# Altium footprint library PCB_2021-06-06.PcbLib: 12 footprints
Each footprint in its own frame and in the unit in brackets; x right, y up, seen from the top. Pads: shape width x height; smd on the part's side, far side on the other; paste and mask are expansions set on the pad; w line width, h text height; cw(c..) or ccw(c..) is an arc to the next point about the centre after c.
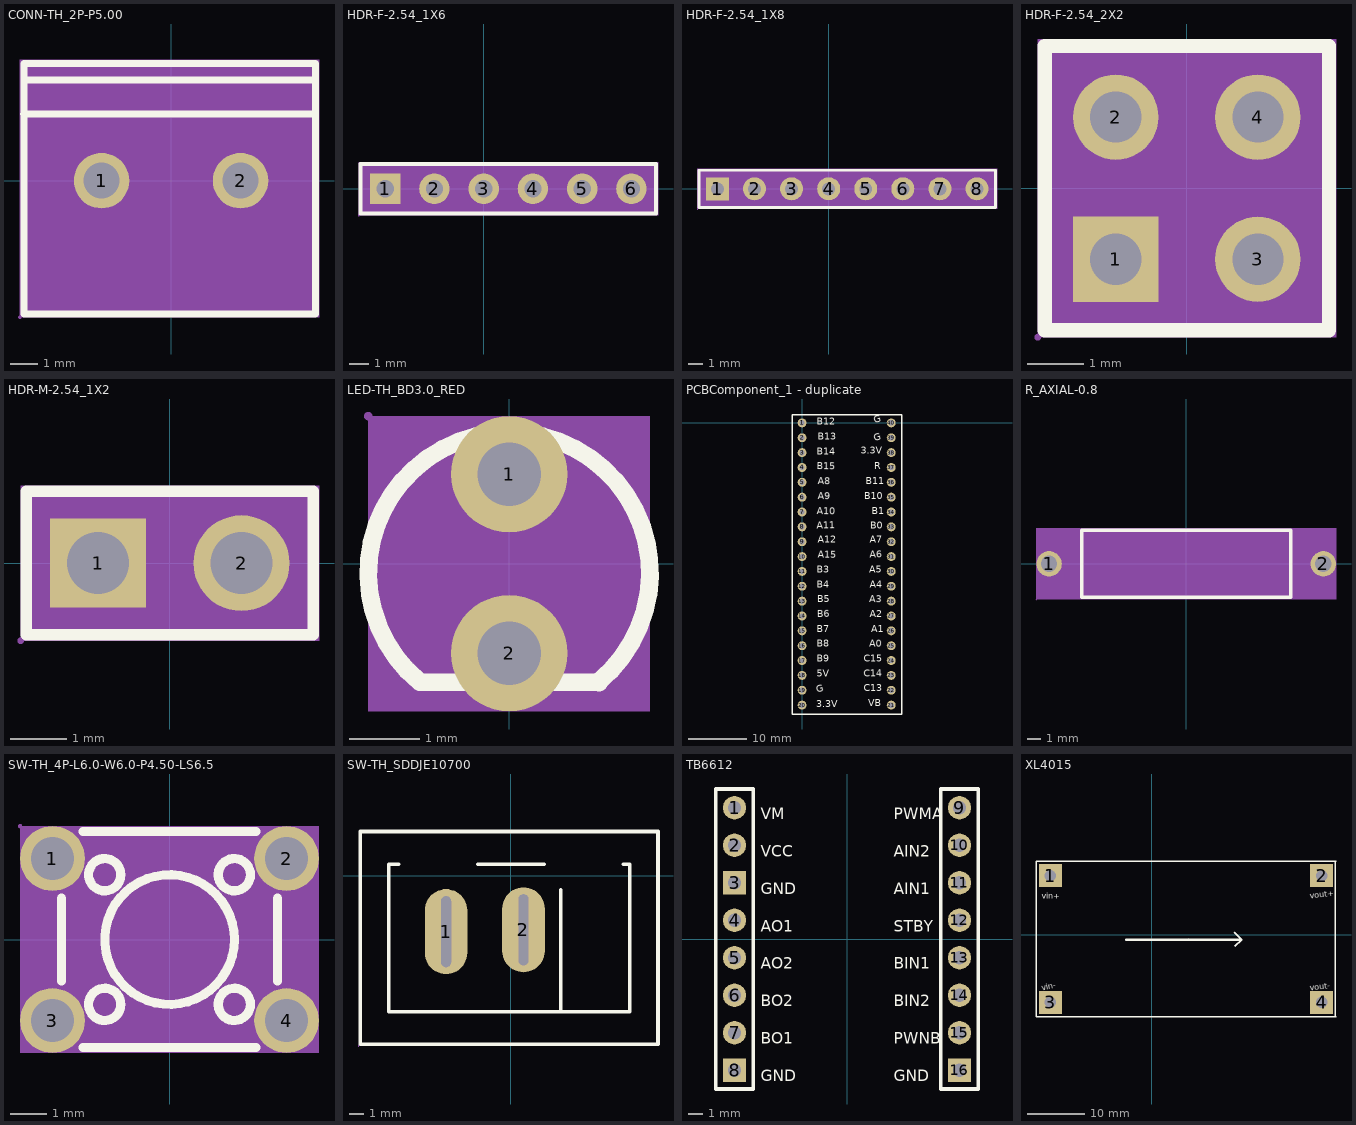
[diagram p0: the footprints below, top view; thin cyan lines are the x and y axes]

## CONN-TH_2P-P5.00 [mm]
pads (2):
  round 2 hole 1.3: 1(-2.504,0) 2(2.504,0)
Top Overlay:
  lines w0.254: -5.325,2.401 5.175,2.401 ; -5.295,3.631 5.205,3.631 ; -5.295,4.201 -5.295,-4.799 5.205,-4.799 ; -5.295,4.231 5.205,4.231 5.205,-4.769
Mechanical 4:
  region: -5.452,4.358 5.332,4.358 5.332,-4.926 -5.452,-4.926
Mechanical 5:
  circle w0.55: c-2.504,0 r0.275
  circle w0.55: c2.504,0 r0.275
Mechanical 6:
  circle w0.06: c-5.452,-4.926 r0.03

## HDR-F-2.54_1X6 [mil]
pads (6):
  rect 62x62 hole 35: 1(-200,0)
  round 62 hole 35: 2(-100,0) 3(0,0) 4(100,0) 5(200,0) 6(300,0)
Top Overlay:
  lines w7.99: -175,50 350,50
  lines w8: -175,50 -250,50 -250,-50 350,-50 350,50
Mechanical 4:
  region: -254,54 354,54 354,-54 -254,-54
Mechanical 5:
  circle w13.56: c-200,0 r6.78
  circle w13.56: c-100,0 r6.78
  circle w13.56: c0,0 r6.78
  circle w13.56: c100,0 r6.78
  circle w13.56: c200,0 r6.78
  circle w13.56: c300,0 r6.78
Mechanical 6:
  circle w2.36: c-254,-54 r1.18

## HDR-F-2.54_1X8 [mil]
pads (8):
  rect 62x62 hole 35: 1(-300,0)
  round 62 hole 35: 2(-200,0) 3(-100,0) 4(0,0) 5(100,0) 6(200,0) 7(300,0) 8(400,0)
Top Overlay:
  lines w7.99: -275,50 450,50
  lines w8: -275,50 -350,50 -350,-50 450,-50 450,50
Mechanical 4:
  region: -354,54 454,54 454,-54 -354,-54
Mechanical 5:
  circle w13.56: c-300,0 r6.78
  circle w13.56: c-200,0 r6.78
  circle w13.56: c-100,0 r6.78
  circle w13.56: c0,0 r6.78
  circle w13.56: c100,0 r6.78
  circle w13.56: c200,0 r6.78
  circle w13.56: c300,0 r6.78
  circle w13.56: c400,0 r6.78
Mechanical 6:
  circle w2.36: c-354,-54 r1.18

## HDR-F-2.54_2X2 [mil]
pads (4):
  rect 60x60 hole 36: 1(-50,-50)
  round 60 hole 36: 2(-50,50) 3(50,-50) 4(50,50)
Top Overlay:
  lines w10: -100,-100 100,-100 100,100 -100,100 -100,-100
Mechanical 4:
  region: -105,105 105,105 105,-105 -105,-105
Mechanical 5:
  circle w14.06: c-50,-50 r7.03
  circle w14.06: c-50,50 r7.03
  circle w14.06: c50,-50 r7.03
  circle w14.06: c50,50 r7.03
Mechanical 6:
  circle w2.36: c-105,-105 r1.18

## HDR-M-2.54_1X2 [mm]
pads (2):
  rect 1.7x1.575 hole 1.1: 1(-1.27,0)
  round 1.7 hole 1.1: 2(1.27,0)
Top Overlay:
  lines w0.203: -2.54,-1.27 2.54,-1.27 2.54,1.27 -0.635,1.27 -2.54,1.27 -2.54,-1.27
Mechanical 4:
  region: -2.642,1.372 2.642,1.372 2.642,-1.372 -2.642,-1.372
Mechanical 5:
  circle w0.45: c-1.27,0 r0.225
  circle w0.45: c1.27,0 r0.225
Mechanical 6:
  circle w0.06: c-2.642,-1.372 r0.03

## LED-TH_BD3.0_RED [mil]
pads (2):
  round 65 hole 35.43: 1(0,50) 2(0,-50)
Top Overlay:
  lines w10: 49.82,-66.2 ccw(c-0.08,-5.29) -49.98,-66.2 50.31,-66.41
Mechanical 4:
  region: -78.82,82.5 78.66,82.5 78.66,-82.5 -78.82,-82.5
Mechanical 5:
  circle w13.78: c0,50 r6.89
  circle w13.78: c0,-50 r6.89
Mechanical 6:
  circle w2.36: c-78.82,82.5 r1.18

## PCBComponent_1 - duplicate [mil]
pads (40):
  round 60 hole 36: 1(0,0) 2(0,-100) 3(0,-200) 4(0,-300) 5(0,-400) 6(0,-500) 7(0,-600) 8(0,-700) 9(0,-800) 10(0,-900) 11(0,-1000) 12(0,-1100) 13(0,-1200) 14(0,-1300) 15(0,-1400) 16(0,-1500) 17(0,-1600) 18(0,-1700) 19(0,-1800) 20(0,-1900) 21(600,-1900) 22(600,-1800) 23(600,-1700) 24(600,-1600) 25(600,-1500) 26(600,-1400) 27(600,-1300) 28(600,-1200) 29(600,-1100) 30(600,-1000) 31(600,-900) 32(600,-800) 33(600,-700) 34(600,-600) 35(600,-500) 36(600,-400) 37(600,-300) 38(600,-200) 39(600,-100) 40(600,0)
Top Overlay:
  lines w10: -65,-1960 -65,55 670,55 670,-1960 -65,-1960
  text "B13" at 105,-130 h80
  text "B15" at 100,-330 h80
  text "B14" at 100,-230 h80
  text "A8" at 103.9,-430.2 h80
  text "A9" at 103.9,-530.2 h80
  text "A10" at 98.9,-630.2 h80
  text "A11" at 98.9,-730.2 h80
  text "A12" at 103.9,-825.2 h80
  text "A15" at 103.9,-925.2 h80
  text "B3" at 98.9,-1025.2 h80
  text "B4" at 98.9,-1125.2 h80
  text "B5" at 102.8,-1225.4 h80
  text "B6" at 102.8,-1325.4 h80
  text "B7" at 97.8,-1425.4 h80
  text "B8" at 97.8,-1525.4 h80
  text "B9" at 98.9,-1625.2 h80
  text "5V" at 98.9,-1725.2 h80
  text "G" at 105,-1835 h80
  text "G" at 492.39,-20 h80
  text "G" at 492.39,-140 h80
  text "3.3V" at 395,-225 h80
  text "R" at 485,-330 h80
  text "B11" at 429.71,-430.2 h80
  text "B10" at 419.94,-530.2 h80
  text "B1" at 469.52,-630.2 h80
  text "B0" at 459.75,-730 h80
  text "A7" at 454.27,-825.2 h80
  text "A6" at 454.27,-925.2 h80
  text "A5" at 453.9,-1025.2 h80
  text "A4" at 454.5,-1125.2 h80
  text "A3" at 453.39,-1225.4 h80
  text "A2" at 454.79,-1325.4 h80
  text "A1" at 464.19,-1425.4 h80
  text "A0" at 453.54,-1525.4 h80
  text "C15" at 413.8,-1625.2 h80
  text "C14" at 414.39,-1725.2 h80
  text "C13" at 414.17,-1825.2 h80
  text "VB" at 447.24,-1925.2 h80
  text "3.3V" at 95,-1930 h80
  text "B12" at 100,-30 h80

## R_AXIAL-0.8 [mil]
pads (2):
  round 74 hole 47.2: 1(-400,0) 2(400,0)
Top Overlay:
  lines w10: -305,-98 -305,98 305,98 305,-98 -305,-98
Mechanical 4:
  region: -437,103 437,103 437,-103 -437,-103
Mechanical 5:
  circle w19.66: c-400,0 r9.83
  circle w19.66: c400,0 r9.83
Mechanical 6:
  circle w2.36: c-437,-103 r1.18

## SW-TH_4P-L6.0-W6.0-P4.50-LS6.5 [mm]
pads (4):
  round 1.8 hole 1.2: 1(-3.25,2.25) 2(3.25,2.25) 3(-3.25,-2.25) 4(3.25,-2.25)
Top Overlay:
  circle w0.254: c1.8,-1.8 r0.447
  circle w0.254: c-1.8,-1.8 r0.447
  circle w0.254: c-1.8,1.8 r0.447
  circle w0.254: c1.8,1.8 r0.447
  circle w0.254: c0,0 r1.8
  lines w0.254: -3,-1.147 -3,1.147 ; -2.404,-3 2.404,-3 ; -2.404,3 2.404,3 ; 3,-1.147 3,1.147
Mechanical 4:
  region: -4.15,3.15 4.15,3.15 4.15,-3.15 -4.15,-3.15
Mechanical 5:
  circle w0.5: c3.25,-2.25 r0.25
  circle w0.5: c-3.25,-2.25 r0.25
  circle w0.5: c3.25,2.25 r0.25
  circle w0.5: c-3.25,2.25 r0.25
Mechanical 6:
  circle w0.06: c-4.15,3.15 r0.03

## SW-TH_SDDJE10700 [mm]
pads (2):
  oval 3x6 hole 0.7 slot 5 at 90 deg: 1(-4.572,-3.937) 2(0.889,-3.81)
Top Overlay:
  lines w0.254: -7.912,0.82 -8.625,0.82 -8.625,-9.58 8.375,-9.58 8.375,0.82 7.912,0.82 ; -2.338,0.82 2.338,0.82 ; 3.505,-9.58 3.505,-0.981 ; -10.625,-11.88 -10.625,3.12 10.375,3.12 10.375,-11.88 -10.625,-11.88
Mechanical 6:
  circle w0.06: c-10.752,-12.007 r0.03

## TB6612 [mil]
pads (16):
  round 62 hole 35: 1(-300,350) 2(-300,250) 4(-300,50) 5(-300,-50) 6(-300,-150) 7(-300,-250) 9(300,350) 10(300,250) 11(300,150) 12(300,50) 13(300,-50) 14(300,-150) 15(300,-250)
  rect 62x62 hole 35: 3(-300,150) 8(-300,-350) 16(300,-350)
Top Overlay:
  lines w10: -350,-400 -350,400 -250,400 -250,-400 -350,-400 ; 250,-400 250,400 350,400 350,-400 250,-400
  text "GND" at 125,-380 h30
  text "PWNB" at 125,-280 h30
  text "BIN2" at 125,-180 h30
  text "BIN1" at 125,-80 h30
  text "STBY" at 125,20 h30
  text "AIN1" at 125,120 h30
  text "AIN2" at 125,220 h30
  text "PWMA" at 125,320 h30
  text "GND" at -230,-380 h30
  text "BO1" at -230,-280 h30
  text "BO2" at -230,-180 h30
  text "AO2" at -230,-80 h30
  text "AO1" at -230,20 h30
  text "GND" at -230,120 h30
  text "VCC" at -230,220 h30
  text "VM" at -230,320 h30

## XL4015 [mm]
pads (4):
  rect 4x4 hole 2: 1(-17.566,10.276) 2(29.434,10.276) 3(-17.566,-11.724) 4(29.434,-11.724)
Top Overlay:
  lines w0.254: 14.299,0.411 15.569,-0.859 14.426,-2.002 ; 31.831,-14.224 31.831,12.776 ; 31.934,-14.224 -20.066,-14.224 -20.066,12.776 31.934,12.776
  lines w0.4: -4.431,-0.859 15.569,-0.859
  text "vout-" at 27.495,-9.72 h1
  text "vout+" at 27.495,6.28 h1
  text "vin+" at -19.066,6.276 h1
  text "vin-" at -18.962,-9.713 h1
Mechanical 15:
  lines w0.003: 6.29,-0.622 6.34,-0.572